# Altium schematic symbol library IND,6.8uH,5.4A,Wirewound,SMD.Schlib: 1 symbol
Pins are listed as number, name and electrical type; pins without a type are passive.

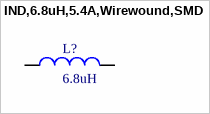
[diagram p0: symbol IND,6.8uH,5.4A,Wirewound,SMD]

## IND,6.8uH,5.4A,Wirewound,SMD
designator L?, comment 6.8uH
Shielded Wirewound Inductor 21.3mOhm Max Nonstandard
pins: 1, 2